# EAGLE library part SI1424EDH-T1-GE3 (library Vishay)
N-Channel 20 V (D-S) MOSFET
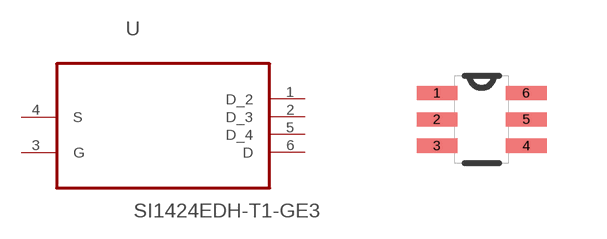
[diagram p73: symbol with the pads of SOT65P210X110-6N; footprint SOT65P210X110-6N]

Designator prefix U

## SI1424EDH-T1-GE3 (MPN: SI1424EDH-T1-GE3; OC_FARNELL: 2056678; OC_NEWARK: 64T4052; PACKAGE: SOT-363-6; SUPPLIER: VISHAY SILICONIX)  [SOT65P210X110-6N]
1  D_2  out
2  D_3  out
3  G  pas
4  S  in
5  D_4  out
6  D  out

## Footprint SOT65P210X110-6N (pad centres in mm)
smd 1.016 x 0.356: 1 -1.118,0.66; 2 -1.118,0; 3 -1.118,-0.66; 4 1.118,-0.66; 5 1.118,0; 6 1.118,0.66